# Altium schematic symbol library INA3221.SchLib: 1 symbol
Pins are listed as number, name and electrical type; pins without a type are passive.

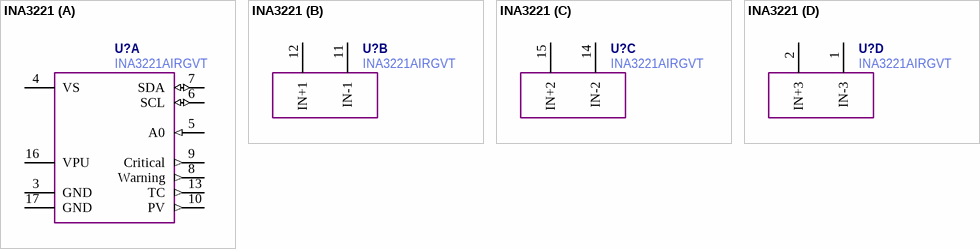
[diagram p0: symbol INA3221]

## INA3221
designator U?  Manufacturer Part Number: INA3221AIRGVT  (hidden comment: *)
part A pins: 3 GND (power), 4 VS (power) "3V3 / 5V0", 5 A0 (in), 6 SCL (io) "3V3 / 5V0", 7 SDA (io) "3V3 / 5V0", 8 Warning (out), 9 Critical (out), 10 PV (out), 13 TC (out), 16 VPU, 17 GND (power)
part B pins: 11 IN-1, 12 IN+1
part C pins: 14 IN-2, 15 IN+2
part D pins: 1 IN-3, 2 IN+3